# EAGLE library part SENS_M-MAG3110 (library eagleLib v2)
3-axis digital (I2C) magnetometer
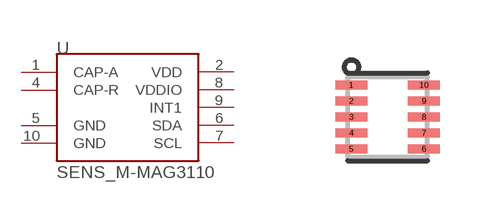
[diagram p49: symbol with the pads of DFN10-2X2; footprint DFN10-2X2]

Designator prefix U

## SENS_M-MAG3110  [DFN10-2X2]
1  CAP-A
2  VDD
4  CAP-R
5  GND
6  SDA
7  SCL
8  VDDIO
9  INT1
10  GND

## Footprint DFN10-2X2 (pad centres in mm)
10-pin DFN, 2mm x 2mm x 0.85mm
smd 0.8 x 0.22: 1 -0.91,0.8; 2 -0.91,0.4; 3 -0.91,0; 4 -0.91,-0.4; 5 -0.91,-0.8; 6 0.91,-0.8; 7 0.91,-0.4; 8 0.91,0; 9 0.91,0.4; 10 0.91,0.8